# EAGLE library part VL6180XV0NR/1 (library RoboJackets-Sensors)
Time of Flight Optical Sensor I²C Output DATASHEET <https://www.st.com/resource/en/datasheet/vl6180x.pdf>
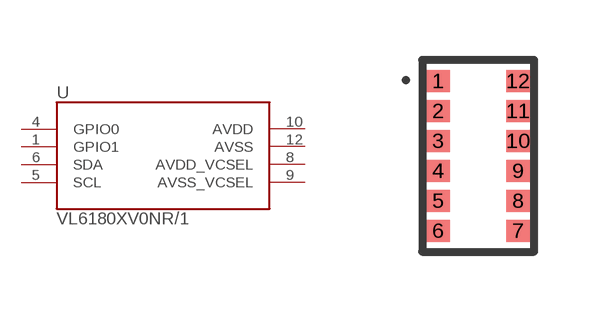
[diagram p8: symbol with the pads of VL6180X_STM; footprint VL6180X_STM]

Designator prefix U

## VL6180XV0NR/1 (DKPN: 497-14702-1-ND)  [VL6180X_STM]
1  GPIO1
4  GPIO0
5  SCL  in
6  SDA
8  AVDD_VCSEL  pwr
9  AVSS_VCSEL  pwr
10  AVDD  pwr
12  AVSS  pwr

## Footprint VL6180X_STM (pad centres in mm)
smd 0.6 x 0.55: 1 -1,1.875; 2 -1,1.125; 3 -1,0.375; 4 -1,-0.375; 5 -1,-1.125; 6 -1,-1.875; 7 1,-1.875; 8 1,-1.125; 9 1,-0.375; 10 1,0.375; 11 1,1.125; 12 1,1.875